# EAGLE library part MBC5 (library jrodrigo-gameboy)
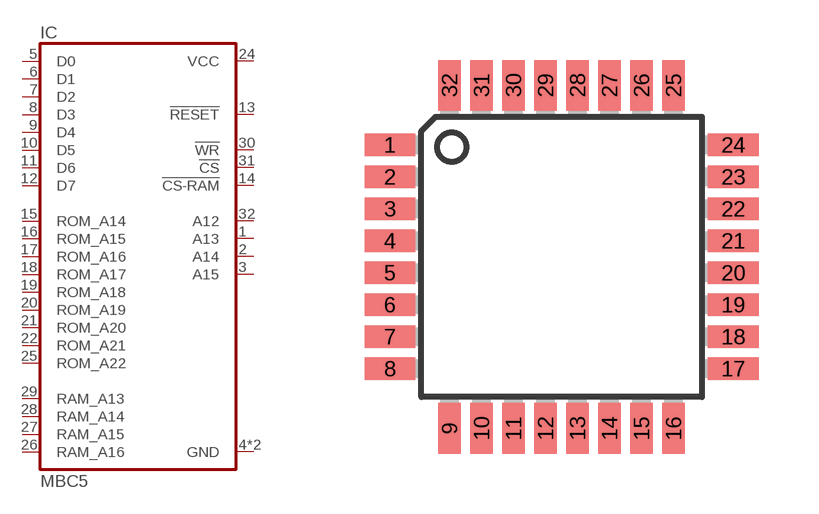
[diagram p2: symbol with the pads of TQFP32; footprint TQFP32]

Designator prefix IC

## MBC5  [TQFP32]
1  A13
2  A14
3  A15
4  GND  pwr
5  D0
6  D1
7  D2
8  D3
9  D4
10  D5
11  D6
12  D7
13  !RESET
14  !CS-RAM
15  ROM_A14
16  ROM_A15
17  ROM_A16
18  ROM_A17
19  ROM_A18
20  ROM_A19
21  ROM_A20
22  ROM_A21
23  GND  pwr
24  VCC  pwr
25  ROM_A22
26  RAM_A16
27  RAM_A15
28  RAM_A14
29  RAM_A13
30  !WR
31  !CS
32  A12

## Footprint TQFP32 (pad centres in mm)
Thin Plasic Quad Flat Package Grid 0.8 mm
smd 1.27 x 0.559: 1 -4.293,2.8; 2 -4.293,2; 3 -4.293,1.2; 4 -4.293,0.4; 5 -4.293,-0.4; 6 -4.293,-1.2; 7 -4.293,-2; 8 -4.293,-2.8; 17 4.293,-2.8; 18 4.293,-2; 19 4.293,-1.2; 20 4.293,-0.4; 21 4.293,0.4; 22 4.293,1.2; 23 4.293,2; 24 4.293,2.8
smd 0.559 x 1.27: 9 -2.8,-4.293; 10 -2,-4.293; 11 -1.2,-4.293; 12 -0.4,-4.293; 13 0.4,-4.293; 14 1.2,-4.293; 15 2,-4.293; 16 2.8,-4.293; 25 2.8,4.293; 26 2,4.293; 27 1.2,4.293; 28 0.4,4.293; 29 -0.4,4.293; 30 -1.2,4.293; 31 -2,4.293; 32 -2.8,4.293